# Altium footprint library MICRO-GRUPO_5-5A.pcbLib.PcbLib: 26 footprints (part 1 of 2)
Each footprint in its own frame and in the unit in brackets; x right, y up, seen from the top. Pads: shape width x height; smd on the part's side, far side on the other; paste and mask are expansions set on the pad; w line width, h text height; cw(c..) or ccw(c..) is an arc to the next point about the centre after c.
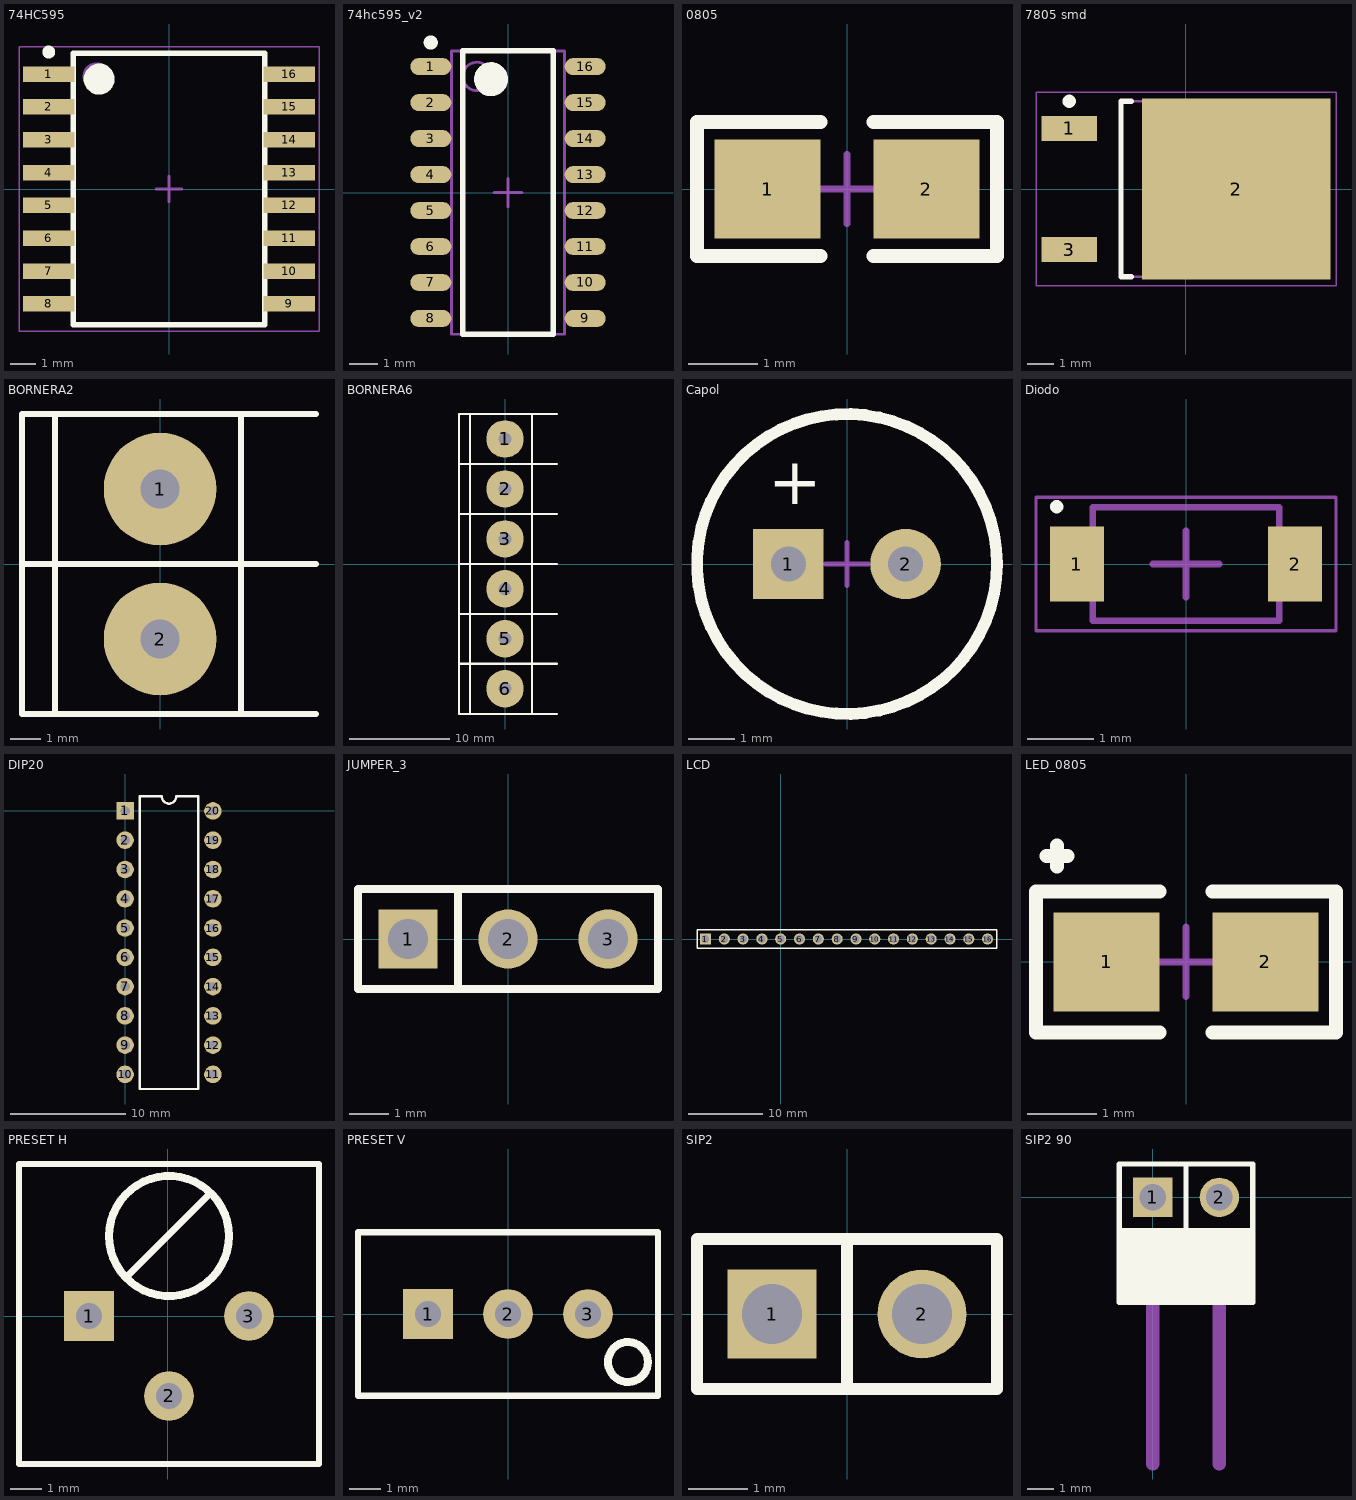
[diagram p0: the footprints below, top view; thin cyan lines are the x and y axes]

## 74HC595 [mm]
height 2.65
pads (16):
  rect 2x0.6 smd: 1(-4.65,4.445) 2(-4.65,3.175) 3(-4.65,1.905) 4(-4.65,0.635) 5(-4.65,-0.635) 6(-4.65,-1.905) 7(-4.65,-3.175) 8(-4.65,-4.445) 9(4.65,-4.445) 10(4.65,-3.175) 11(4.65,-1.905) 12(4.65,-0.635) 13(4.65,0.635) 14(4.65,1.905) 15(4.65,3.175) 16(4.65,4.445)
Top Overlay:
  circle w0.6: c-2.7,4.25 r0.3
  circle w0.25: c-4.65,5.295 r0.125
  lines w0.2: -3.7,-5.25 3.7,-5.25 3.7,5.25 -3.7,5.25 -3.7,-5.25
Mechanical 13:
  circle w0.1: c-2.8,4.35 r0.5
  lines w0.1: -3.7,-5.25 3.7,-5.25 3.7,5.25 -3.7,5.25 -3.7,-5.25
Mechanical 15:
  lines w0.05: -5.8,-5.5 5.8,-5.5 5.8,5.5 -5.8,5.5 -5.8,-5.5
  lines w0.1: -0.5,0 0.5,0 ; 0,-0.5 0,0.5
3D body: height 2.65, standoff 0.25, extent -3.8,-5.25 3.8,5.25

## 74hc595_v2 [mm]
height 1.75
pads (16):
  oval 1.45x0.6 smd: 1(-2.725,4.445) 2(-2.725,3.175) 3(-2.725,1.905) 4(-2.725,0.635) 5(-2.725,-0.635) 6(-2.725,-1.905) 7(-2.725,-3.175) 8(-2.725,-4.445) 9(2.725,-4.445) 10(2.725,-3.175) 11(2.725,-1.905) 12(2.725,-0.635) 13(2.725,0.635) 14(2.725,1.905) 15(2.725,3.175) 16(2.725,4.445)
Top Overlay:
  circle w0.25: c-2.725,5.295 r0.125
  circle w0.6: c-0.6,4 r0.3
  lines w0.2: -1.6,-5 -1.6,5 1.6,5 1.6,-5 -1.6,-5
Mechanical 13:
  circle w0.1: c-1.1,4.1 r0.5
  lines w0.1: -2,-5 -2,5 2,5 2,-5 -2,-5
Mechanical 15:
  lines w0.1: -0.5,0 0.5,0 ; 0,-0.5 0,0.5
3D body: height 1.75, standoff 0.1, extent -2,-5 2,5

## 0805 [mil] "Pasivo 0805"
height 27.56
pads (2):
  rect 60x56 smd: 1(-45,0) 2(45,0)
Top Overlay:
  lines w7.87: -85,-38 -85,38 -15,38 ; -84,-38 -15,-38 ; 15,-38 85,-38 85,38 15,38
Mechanical 15:
  lines w3.94: -19.69,0 19.68,0 ; 0,-19.68 0,19.68
3D body: height 15.35, standoff -0.79, extent -39.5,-24.5 39.24,24.71

## 7805 smd [mm] "D-PAK, 3-Pads, Body 6,20x6,66mm (max), IPC Medium Density"
height 2.4
pads (3):
  rect 2.1x0.95 smd: 1(-4.4,2.28) 3(-4.4,-2.28)
  rect 7.1x6.8 smd: 2(1.9,0)
Top Overlay:
  circle w0.25: c-4.4,3.305 r0.125
  lines w0.2: -2.05,-3.3 -2.45,-3.3 -2.45,3.3 -2.05,3.3
Mechanical 13:
  lines w0.1: -2.45,-3.3 3.75,-3.3 3.75,3.3 -2.45,3.3 -2.45,-3.3
Mechanical 15:
  lines w0.05: -5.65,-3.65 5.65,-3.65 5.65,3.65 -5.65,3.65 -5.65,-3.65
  lines w0.1: -0.5,0 0.5,0 ; 0,-0.5 0,0.5
3D body: height 2.4, standoff 0.9, extent -2.45,-3.3 3.75,3.3

## BORNERA2 [mm] "Bornera con Tornillos 5mm separaci�n"
pads (2):
  round 3.75 hole 1.3: 1(0,2.5) 2(0,-2.5)
Top Overlay:
  lines w0.2: -4.6,0 5.2,0 ; -3.5,-5 -3.5,5 ; 2.7,-5 2.7,5 ; 5.2,-5 -4.6,-5 -4.6,5 5.2,5
3D body: height 10, standoff -2.28, extent -3.763,-4.892 3.937,5.607

## BORNERA6 [mm] "Bornera con Tornillos 5mm separaci�n"
pads (6):
  round 3.75 hole 1.3: 1(0,12.517) 2(0,7.517) 3(0,2.516) 4(0,-2.484) 5(0,-7.484) 6(0,-12.484)
Top Overlay:
  lines w0.2: -4.6,-10.017 5.2,-10.017 ; -4.6,-9.984 5.2,-9.984 ; -4.6,-4.984 5.2,-4.984 ; -4.6,0.016 5.2,0.016 ; -4.6,5.016 5.2,5.016 ; -4.6,10.017 5.2,10.017 ; -3.5,-15.017 -3.5,15.017 ; 2.7,-15.017 2.7,15.017 ; 5.2,-15.017 -4.6,-15.017 -4.6,15.017 5.2,15.017
3D body: height 10.05, standoff -2.24, extent -3.763,-14.862 3.937,0.638
3D body: height 10.05, standoff -2.24, extent -3.763,0.124 3.937,15.624

## Capol [mil] "Body diameter 6.5mm"
pads (2):
  rect 60x60 hole 30: 1(-50,0)
  round 60 hole 30: 2(50,0)
Top Overlay:
  circle w10: c0,0 r127.95
  text "+" at -67,51 h40
Mechanical 15:
  lines w3.94: -18.7,0 18.7,0 ; 0,-18.7 0,18.7
3D body: height 453.76, standoff -118.67, extent -124,-125.02 126.03,125.02

## Diodo [mm] "SODFL, 2-Leads, Body 1,60x3,60mm, IPC Medium Density"
height 1.3
pads (2):
  rect 0.81x1.12 smd: 1(-1.635,0) 2(1.635,0)
Top Overlay:
  circle w0.1: c-1.94,0.86 r0.05
Mechanical 13:
  lines w0.1: -1.4,-0.85 -1.4,0.85 1.4,0.85 1.4,-0.85 -1.4,-0.85
Mechanical 15:
  lines w0.05: -2.25,-1 -2.25,1 2.25,1 2.25,-1 -2.25,-1
  lines w0.1: -0.5,0 0.5,0 ; 0,-0.5 0,0.5
3D body: height 1.3, standoff 0, extent -1.4,-0.85 1.4,0.85

## DIP20 [mil]
pads (20):
  rect 60x60 hole 32: 1(0,0)
  round 60 hole 32: 2(0,-100) 3(0,-200) 4(0,-300) 5(0,-400) 6(0,-500) 7(0,-600) 8(0,-700) 9(0,-800) 10(0,-900) 11(300,-900) 12(300,-800) 13(300,-700) 14(300,-600) 15(300,-500) 16(300,-400) 17(300,-300) 18(300,-200) 19(300,-100) 20(300,0)
Top Overlay:
  lines w8: 50,-950 250,-950 250,50 175,50 cw(c150,50) 125,50 50,50 50,-950
3D body: height 216.54, standoff -102.36, extent -50.85,-951 342.85,49
3D body: height 393.7, standoff 78.74, extent -3,-952.94 302.54,54.93

## JUMPER_3 [mm]
pads (3):
  rect 1.5x1.5 hole 1.016: 1(-2.54,0)
  round 1.5 hole 1.016: 2(0,0) 3(2.54,0)
Top Overlay:
  lines w0.2: -1.27,-1.27 -1.27,1.27 ; -3.81,-1.27 -3.81,1.27 3.81,1.27 3.81,-1.27 -3.81,-1.27
3D body: height 8.38, standoff -2.54, extent -3.81,-1.295 3.81,1.245
3D body: height 16.15, standoff 2.65, extent -3.795,-1.12 1.255,1.27

## LCD [mm]
pads (16):
  rect 1.5x1.5 hole 1.016: 1(-10.16,0)
  round 1.5 hole 1.016: 2(-7.62,0) 3(-5.08,0) 4(-2.54,0) 5(0,0) 6(2.54,0) 7(5.08,0) 8(7.62,0) 9(10.16,0) 10(12.7,0) 11(15.24,0) 12(17.78,0) 13(20.32,0) 14(22.86,0) 15(25.4,0) 16(27.94,0)
Top Overlay:
  lines w0.2: 16.637,-1.27 29.21,-1.27 29.21,1.27 16.637,1.27 ; 19.05,-1.27 -11.303,-1.27 -11.303,1.27 19.05,1.27
3D body: height 8.38, standoff -2.54, extent 19.05,-1.27 29.21,1.27
3D body: height 8.38, standoff -2.54, extent -11.43,-1.27 -1.27,1.27
3D body: height 8.38, standoff -2.54, extent 8.89,-1.27 19.05,1.27
3D body: height 8.38, standoff -2.54, extent -1.27,-1.27 8.89,1.27

## LED_0805 [mil] "LED SMD 0805"
height 27.56
pads (2):
  rect 60x56 smd: 1(-45,0) 2(45,0)
Top Overlay:
  lines w7.87: -79,60 -67,60 ; -73,54 -73,66 ; -15,-40 -85,-40 -85,40 -15,40 ; 15,-40 85,-40 85,40 15,40
Mechanical 15:
  lines w3.94: -19.69,0 19.68,0 ; 0,-19.68 0,19.68
3D body: height 33.45, standoff 0.23, extent -40.6,-17.68 40.6,18

## PRESET H [mil]
pads (3):
  rect 62x62 hole 32: 1(-98.42,0)
  round 62 hole 32: 2(1.57,-100) 3(101.57,0)
Top Overlay:
  circle w10: c1.57,100 r75
  lines w7.87: -49.7,50.59 50.3,150.59 ; -185.93,-185 189.07,-185 189.07,190 -185.93,190 -185.93,-185
3D body: height 196.85, standoff -190.16, extent -190,-187.6 185.2,187.6

## PRESET V [mil]
pads (3):
  rect 62x62 hole 32: 1(-100,0)
  round 62 hole 32: 2(0,0) 3(100,0)
Top Overlay:
  circle w10: c150,-60 r25
  lines w7.87: -187.5,-102.36 -187.5,102.36 187.5,102.36 187.5,-102.36 -187.5,-102.36
3D body: height 454.72, standoff -251.97, extent -185.2,-95.1 190,95.1

## SIP2 [mm]
pads (2):
  rect 1.5x1.5 hole 1.016: 1(-1.27,0)
  round 1.5 hole 1.016: 2(1.27,0)
Top Overlay:
  lines w0.2: 0,-1.27 0,1.27 ; -2.54,-1.27 -2.54,1.27 2.54,1.27 2.54,-1.27 -2.54,-1.27

## SIP2 90 [mm]
pads (2):
  rect 1.5x1.5 hole 1.016: 1(0,0)
  round 1.5 hole 1.016: 2(2.54,0)
Top Overlay:
  rectangle: -1.27,-4 1.27,-1.27
  rectangle: 1.27,-4 3.81,-1.27
  lines w0.2: 1.27,1.27 1.27,-1.27 ; -1.27,-1.27 -1.27,1.27 3.81,1.27 3.81,-1.27 ; -1.27,-1.27 -1.27,-4 1.27,-4 ; -1.27,-1.27 3.81,-1.27 ; 1.27,-4 1.27,-1.27 ; 1.27,-4 1.27,-1.27 ; 1.27,-4 3.81,-4 3.81,-1.27
Mechanical 1:
  lines w0.508: 0,-10.16 0,-4.064 ; 2.54,-10.16 2.54,-4.064
3D body: height 3.76, standoff -4.72, extent -1.27,-9.938 3.81,0.286